# Altium footprint library CASE-P_2012.PcbLib: 1 footprints
Each footprint in its own frame and in the unit in brackets; x right, y up, seen from the top. Pads: shape width x height; smd on the part's side, far side on the other; paste and mask are expansions set on the pad; w line width, h text height; cw(c..) or ccw(c..) is an arc to the next point about the centre after c.
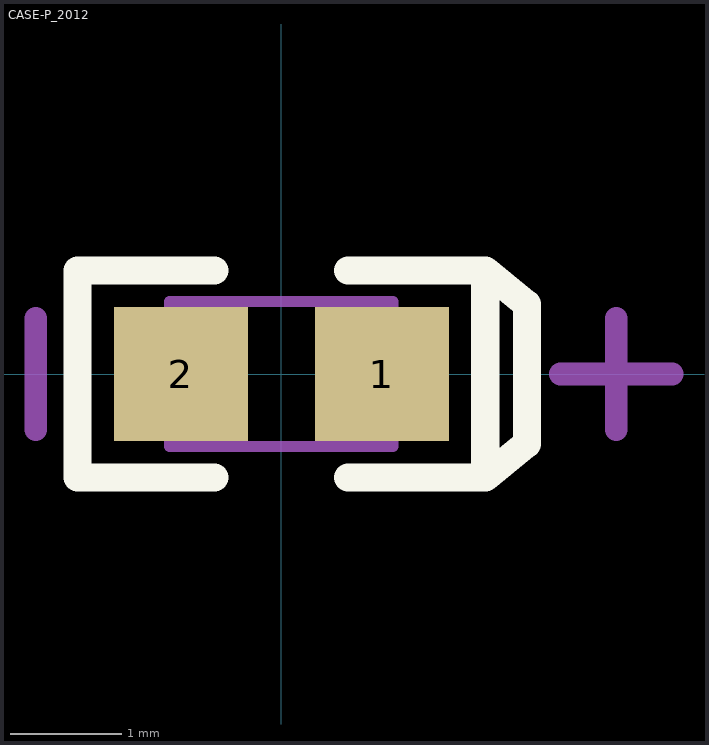
[diagram p0: the footprint, top view; thin cyan lines are the x and y axes]

## CASE-P_2012 [mm]
pads (2):
  rect 1.2x1.2 smd: 1(0.9,0) 2(-0.9,0)
Top Overlay:
  lines w0.254: -0.6,-0.927 -1.827,-0.927 -1.827,0.927 -0.6,0.927 ; 0.6,-0.927 1.827,-0.927 ; 0.6,0.927 1.827,0.927 ; 1.827,-0.927 1.827,0.927 ; 1.827,-0.927 2.2,-0.623 2.2,0.623 1.827,0.927
Mechanical 13:
  lines w0.1: -1,-0.65 -1,0.65 1,0.65 1,-0.65 -1,-0.65
Mechanical 15:
  lines w0.203: -2.2,-0.5 -2.2,0.5 ; 2.5,0 3.5,0 ; 3,-0.5 3,0.5